# Altium schematic symbol library CHS-01A.SchLib: 1 symbol
Pins are listed as number, name and electrical type; pins without a type are passive.

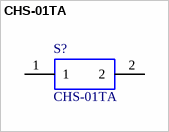
[diagram p0: symbol CHS-01TA]

## CHS-01TA
designator S?
NIDEC COPAL ELECTRONICS - CHS-01TA - DIP SWITCH, 1POS, SPST, SLIDE, SMD; Manufacturer_Name: Copal Electronics; Manufacturer_Part_Number: CHS-01TA; RS Part Number: *; RS Price/Stock: *; Arrow Part Number: CHS-01TA; Arrow Price/Stock: https://www.arrow.com/en/products/chs-01ta/nidec-copal-electronics; Datasheet Link: https://www.nidec-copal-electronics.com/e/catalog/switch/chs.pdf
footprint CHS-01A
pins: 1, 2